# Altium footprint library a_Valider_PA.PcbLib: 6 footprints
Each footprint in its own frame and in the unit in brackets; x right, y up, seen from the top. Pads: shape width x height; smd on the part's side, far side on the other; paste and mask are expansions set on the pad; w line width, h text height; cw(c..) or ccw(c..) is an arc to the next point about the centre after c.
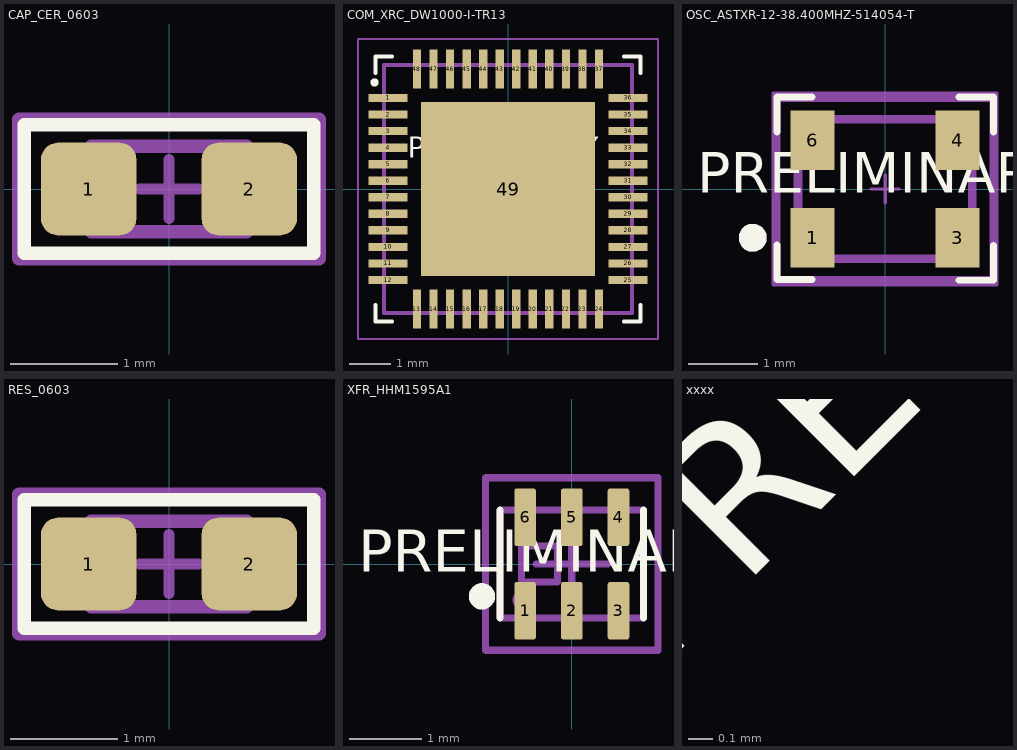
[diagram p0: the footprints below, top view; thin cyan lines are the x and y axes]

## CAP_CER_0603 [mil] "Ceramic Capacitor - 0603"
height 31.5
pads (2):
  rrect35% 35x34 smd paste+0 mask+1.97: 1(-29.5,0) 2(29.5,0)
Top Overlay:
  lines w5: -53.15,-23.62 53.15,-23.62 53.15,23.62 -53.15,23.62 -53.15,-23.62
Top Assembly Drawing:
  lines w5: -28.54,-15.75 28.54,-15.75 28.54,15.75 -28.54,15.75 -28.54,-15.75
Top Courtyard:
  lines w3.94: -10.83,0 10.83,0 ; 0,-10.83 0,10.83
  lines w5: -55.12,-25.59 55.12,-25.59 55.12,25.59 -55.12,25.59 -55.12,-25.59
3D body "Cap0603.step": height 35.43, standoff 0, extent -31.5,-15.75 31.5,15.75

## COM_XRC_DW1000-I-TR13 [mm] "QFN 48 package, 0.5mm pitch"
height 1
pads (49):
  rect 0.95x0.2 smd mask+0.125: 1(-2.9,2.2) 2(-2.9,1.8) 3(-2.9,1.4) 4(-2.9,1) 5(-2.9,0.6) 6(-2.9,0.2) 7(-2.9,-0.2) 8(-2.9,-0.6) 9(-2.9,-1) 10(-2.9,-1.4) 11(-2.9,-1.8) 12(-2.9,-2.2) 25(2.9,-2.2) 26(2.9,-1.8) 27(2.9,-1.4) 28(2.9,-1) 29(2.9,-0.6) 30(2.9,-0.2) 31(2.9,0.2) 32(2.9,0.6) 33(2.9,1) 34(2.9,1.4) 35(2.9,1.8) 36(2.9,2.2)
  rect 0.2x0.95 smd mask+0.125: 13(-2.2,-2.9) 14(-1.8,-2.9) 15(-1.4,-2.9) 16(-1,-2.9) 17(-0.6,-2.9) 18(-0.2,-2.9) 19(0.2,-2.9) 20(0.6,-2.9) 21(1,-2.9) 22(1.4,-2.9) 23(1.8,-2.9) 24(2.2,-2.9) 37(2.2,2.9) 38(1.8,2.9) 39(1.4,2.9) 40(1,2.9) 41(0.6,2.9) 42(0.2,2.9) 43(-0.2,2.9) 44(-0.6,2.9) 45(-1,2.9) 46(-1.4,2.9) 47(-1.8,2.9) 48(-2.2,2.9)
  rect 4.2x4.2 smd: 49(0,0)
Top Overlay:
  circle w0.1: c-3.225,2.575 r0.05
  lines w0.1: -3.2,-2.8 -3.2,-3.2 -2.8,-3.2 ; -3.2,2.8 -3.2,3.2 -2.8,3.2 ; 2.8,-3.2 3.2,-3.2 3.2,-2.8 ; 2.8,3.2 3.2,3.2 3.2,2.8
  text "PRELIMINARY" at -2.425,0.75 h0.5
Top Assembly Drawing:
  circle w0.1: c-2.6,2.2 r0.05
  lines w0.1: -3,-3 3,-3 3,3 -3,3 -3,-3
Top Courtyard:
  lines w0.05: -3.625,-3.625 -3.625,3.625 3.625,3.625 3.625,-3.625 -3.625,-3.625
  lines w0.1: 0,0.2 0,-0.2 0,0 -0.2,0 0.2,0 ; 0.201,0 0.202,-0.002
3D body "DW1000-I-TR13.stp": height 0.9, standoff 0, extent -3.05,-3.05 3.05,3.05

## OSC_ASTXR-12-38.400MHZ-514054-T [mm]
pads (4):
  rect 0.63x0.85 smd: 1(-1.04,-0.7) 3(1.04,-0.7) 4(1.04,0.7) 6(-1.04,0.7)
Top Overlay:
  circle w0.2: c-1.9,-0.7 r0.1
  lines w0.1: -1.55,-0.801 -1.55,-1.3 -1.05,-1.3 ; -1.549,0.819 -1.549,1.319 -1.049,1.319 ; 1.057,-1.309 1.557,-1.309 1.557,-0.809 ; 1.058,1.319 1.558,1.319 1.558,0.819
  text "PRELIMINARY" at -2.7,-0.25 h1
Top Assembly Drawing:
  lines w0.1: -1.25,-1 1.25,-1 1.25,1 -1.25,1 -1.25,-1
Bottom Designators:
  circle w0.2: c-1.9,-0.7 r0.1
  circle w0.2: c-1.9,-0.7 r0.1
  lines w0.127: -1.25,-1 -1.25,1 ; -1.25,-1 -1.25,1 ; -1.25,-1 1.25,-1 ; -1.25,1 1.25,1 ; -1.25,1 1.25,1 ; 1.25,-1 1.25,1 ; 1.25,-1 1.25,1
Top Courtyard:
  lines w0.05: -0.2,0 0.2,0 ; 0,-0.2 0,0.2
  lines w0.1: -1.55,-1.3 -1.55,1.3 1.55,1.3 1.55,-1.3 -1.55,-1.3
Bottom Courtyard:
  lines w0.05: -1.605,-1.375 1.605,-1.375 1.605,1.375 -1.605,1.375 -1.605,-1.375
3D body "ASTXR-12.STL.STEP": height 0.85, standoff 0, extent -1.25,-1 1.25,1

## RES_0603 [mil] "Resistor - 0603"
height 17.72
pads (2):
  rrect35% 35x34 smd paste+0 mask+1.97: 1(-29.5,0) 2(29.5,0)
Top Overlay:
  lines w5: -53.15,-23.62 -53.15,23.62 53.15,23.62 53.15,-23.62 -53.15,-23.62
Top Assembly Drawing:
  lines w5: -28.54,-15.75 -28.54,15.75 28.54,15.75 28.54,-15.75 -28.54,-15.75
Top Courtyard:
  lines w3.94: -10.83,0 10.83,0 ; 0,-10.83 0,10.83
  lines w5: -55.12,-25.59 -55.12,25.59 55.12,25.59 55.12,-25.59 -55.12,-25.59
3D body "RES0603.stp": height 16.93, standoff -0.79, extent -31.49,-15.74 31.51,15.76

## XFR_HHM1595A1 [mm] "HHM1595A1"
height 0.95
pads (6):
  rrect20% 0.3x0.8 smd: 1(-0.65,-0.65) 2(0,-0.65) 3(0.65,-0.65) 4(0.65,0.65) 5(0,0.65) 6(-0.65,0.65)
Top Overlay:
  circle w0.254: c-1.25,-0.45 r0.056
  lines w0.1: -1,-0.75 -1,0.75 ; 1,-0.75 1,0.75
  text "PRELIMINARY" at -2.975,-0.3 h1
Top Assembly Drawing:
  circle w0.15: c-0.7,-0.5 r0.05
  lines w0.1: -0.2,-0.25 -0.7,-0.25 -0.7,0.25 -0.2,0.25 -0.2,-0.225 ; -1,-0.75 -1,0.75 1,0.75 1,-0.75 -1,-0.75
Top Courtyard:
  lines w0.1: -0.5,0 0.5,0 ; 0,-0.5 0,0.5 ; -1.2,-1.2 1.2,-1.2 1.2,1.2 -1.2,1.2 -1.2,-1.2
3D body: height 0.95, standoff 0, extent -1,-0.75 1,0.75

## xxxx [mm]
Top Layer:
  text "c" at 27.769,13.105 h2.51
  text "o" at 26.625,13.105 h2.51
  text "D" at 24.971,13.106 h2.51
  text "h" at 23.826,13.106 h2.51
  text "c" at 22.809,13.105 h2.51
  text "S" at 21.579,13.108 h2.51
  text "." at 20.985,13.105 h2.51
  text "P" at 19.968,13.106 h2.51
  text "O" at 18.314,13.108 h2.51
  text "T" at 16.957,13.106 h2.51
  text "_" at 15.813,13.109 h2.51
  text "D" at 14.159,13.106 h2.51
  text "R" at 12.633,13.106 h2.51
  text "A" at 11.024,13.106 h2.51
  text "O" at 9.368,13.108 h2.51
  text "B" at 7.841,13.106 h2.51
  text "_" at 6.697,13.109 h2.51
  text "E" at 5.297,13.106 h2.51
  text "V" at 3.644,13.108 h2.51
  text "I" at 2.923,13.106 h2.51
  text "H" at 1.269,13.106 h2.51
  text "P" at 4.28,15.65 h2.51
  text "O" at 2.626,15.652 h2.51
  text "T" at 1.269,15.65 h2.51
  text "c" at 27.769,13.105 h2.51
  text "o" at 26.625,13.105 h2.51
  text "D" at 24.971,13.106 h2.51
  text "h" at 23.826,13.106 h2.51
  text "c" at 22.809,13.105 h2.51
  text "S" at 21.579,13.108 h2.51
  text "." at 20.985,13.105 h2.51
  text "P" at 19.968,13.106 h2.51
  text "O" at 18.314,13.108 h2.51
  text "T" at 16.957,13.106 h2.51
  text "_" at 15.813,13.109 h2.51
  text "D" at 14.159,13.106 h2.51
  text "R" at 12.633,13.106 h2.51
  text "A" at 11.024,13.106 h2.51
  text "O" at 9.368,13.108 h2.51
  text "B" at 7.841,13.106 h2.51
  text "_" at 6.697,13.109 h2.51
  text "E" at 5.297,13.106 h2.51
  text "V" at 3.644,13.108 h2.51
  text "I" at 2.923,13.106 h2.51
  text "H" at 1.269,13.106 h2.51
  text "P" at 4.28,15.65 h2.51
  text "O" at 2.626,15.652 h2.51
  text "T" at 1.269,15.65 h2.51
Top Overlay:
  text "PRELIMINARY" at -2.464,-2.997 h1.25